# Altium integrated library BQ24075RGTT.IntLib: 1 symbol
Pins are listed as number, name and electrical type; pins without a type are passive.

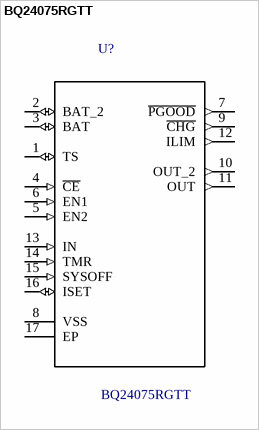
[diagram p0: symbol BQ24075RGTT]

## BQ24075RGTT
designator U?
USB-Friendly Li-Ion Battery Charger and Power-Path Management IC, Vout 5.5V 16-QFN -40 to 85; MF: Texas Instruments; SnapEDA_Link: https://www.snapeda.com/parts/BQ24075RGTT/Texas%20Instruments/view-part/?ref=snap; MP: BQ24075RGTT; Availability: Unavailable; Package: QFN-16 Texas Instruments; Price: None; Value: *
footprint QFN50P300X300X100-17N
pins: 1 TS (io), 2 BAT_2 (io), 3 BAT (io), 4 ~{CE} (in), 5 EN2 (in), 6 EN1 (in), 7 ~{PGOOD} (out), 8 VSS, 9 ~{CHG} (out), 10 OUT_2 (out), 11 OUT (out), 12 ILIM (out), 13 IN (in), 14 TMR (in), 15 SYSOFF (in), 16 ISET (io), 17 EP